# Altium schematic symbol library 网络插座.SchLib: 4 symbols
Pins are listed as number, name and electrical type; pins without a type are passive.

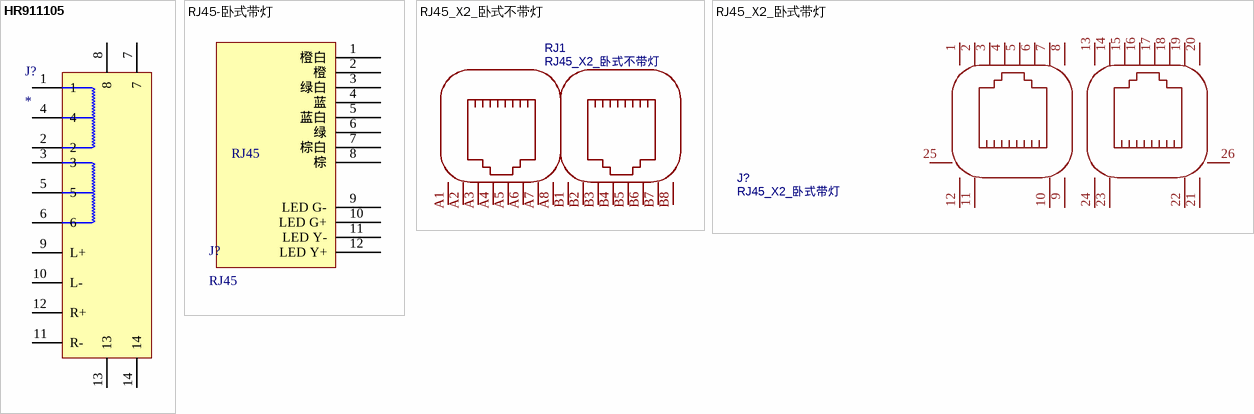
[diagram p0: symbols HR911105 to RJ45_X2_卧式带灯]

## HR911105
designator J?
footprint HR911105A
pins: 1, 2, 3, 4, 5, 6, 7, 8, 9 L+, 10 L-, 11 R-, 12 R+, 13, 14

## RJ45-卧式带灯
designator J?, comment RJ45
footprint RJ45-卧式带灯
pins: 1 橙白, 2 橙, 3 绿白, 4 蓝, 5 蓝白, 6 绿, 7 棕白, 8 棕, 9 LED G-, 10 LED G+, 11 LED Y-, 12 LED Y+

## RJ45_X2_卧式不带灯
designator RJ1
BOM_Manufacturer: CONNFLY; BOM_Manufacturer Part: DS1131-02-S8B8P; BOM_Supplier: LCSC; BOM_Supplier Part: C87407; spicePre: R; spiceSymbolName: DS1131-02-S8B8P
footprint RJ45-X2-卧式不带灯
pins: A1, A2, A3, A4, A5, A6, A7, A8, B1, B2, B3, B4, B5, B6, B7, B8

## RJ45_X2_卧式带灯
designator J?
BOM_Manufacturer: CONNFLY; BOM_Manufacturer Part: DS1129-04-S8B0P-X; subpart_no: 1; BOM_Supplier Part: C86581; BOM_Supplier: LCSC; spicePre: R; spiceSymbolName: DS1129-04-S8B0P-X
footprint RJ45-X2-卧式带灯
pins: 1, 2, 3, 4, 5, 6, 7, 8, 9, 10, 11, 12, 13, 14, 15, 16, 17, 18, 19, 20, 21, 22, 23, 24, 25, 26